# Altium footprint library grov_pcb_card.PcbLib: 34 footprints (part 3 of 3)
Each footprint in its own frame and in the unit in brackets; x right, y up, seen from the top. Pads: shape width x height; smd on the part's side, far side on the other; paste and mask are expansions set on the pad; w line width, h text height; cw(c..) or ccw(c..) is an arc to the next point about the centre after c.
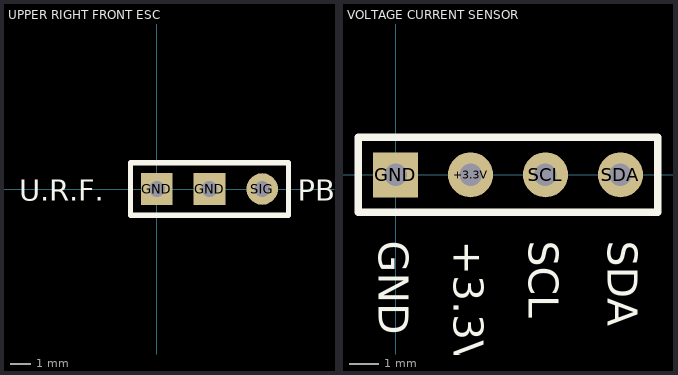
[diagram p2: the footprints below, top view; thin cyan lines are the x and y axes]

## UPPER RIGHT FRONT ESC [mil]
pads (3):
  rect 60x60 hole 30: GND(0,0) GND(100,0)
  round 60 hole 30: SIG(200,0)
Top Overlay:
  lines w10: -50,-50 250,-50 250,50 -50,50 -50,-50
  text "PB12" at 268,-22 h40
  text "U.R.F." at -262,-22 h40
3D body "3 pin 1 Row 2.54mm Male Pin Header.stp": height 350, standoff -80, extent -50,-50 250,50

## VOLTAGE CURRENT SENSOR [mil]
pads (4):
  round 60 hole 30: +3.3V(100,0) SCL(200,0) SDA(300,0)
  rect 60x60 hole 30: GND(0,0)
Top Overlay:
  lines w10: -50,-50 350,-50 350,50 -50,50 -50,-50
  text "SCL" at 178,-88 h40
  text "SDA" at 283,-88 h40
  text "+3.3V" at 78,-88 h40
  text "GND" at -22,-87.99 h40
3D body "4 pin 1 Row 2.54mm Male Pin Header.stp": height 330, standoff -115, extent -50,-48 350,50